# Altium footprint library PcbLib1.PcbLib: 2 footprints
Each footprint in its own frame and in the unit in brackets; x right, y up, seen from the top. Pads: shape width x height; smd on the part's side, far side on the other; paste and mask are expansions set on the pad; w line width, h text height; cw(c..) or ccw(c..) is an arc to the next point about the centre after c.
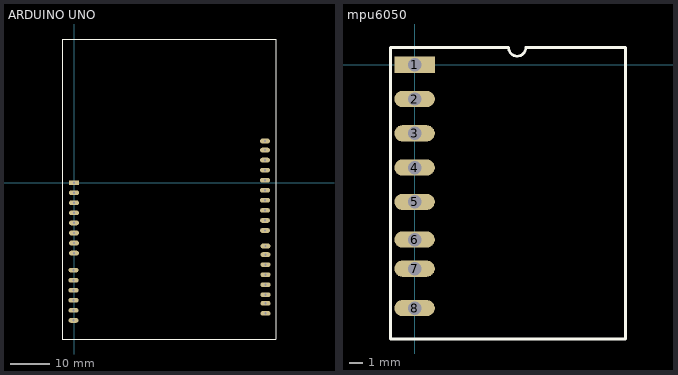
[diagram p0: the footprints below, top view; thin cyan lines are the x and y axes]

## ARDUINO UNO [mm]
pads (32):
  rect 2.5x1.2 hole 0.6: 1(0,0)
  oval 2.5x1.2 hole 0.6: 2(0,-2.54) 3(0,-5.08) 4(0,-7.62) 5(0,-10.16) 6(0,-12.7) 7(0,-15.24) 8(0,-17.78) 9(-0.127,-22.098) 10(-0.127,-24.638) 11(-0.127,-27.178) 12(-0.127,-29.718) 13(-0.127,-32.258) 14(-0.127,-34.798) 15(48.387,-33.02) 16(48.387,-30.48) 17(48.387,-28.321) 18(48.387,-25.781) 19(48.387,-23.241) 20(48.387,-20.701) 21(48.387,-18.161) 22(48.387,-16.002) 23(48.26,-12.065) 24(48.26,-9.525) 25(48.26,-6.985) 26(48.26,-4.445) 27(48.26,-1.905) 28(48.26,0.635) 29(48.26,3.175) 30(48.26,5.715) 31(48.26,8.255) 32(48.26,10.541)
Top Overlay:
  lines w0.2: 8.235,36.322 50.927,36.322 50.927,-39.497 -2.921,-39.497 -2.921,36.322 8.255,36.322
3D body "UNO_PCB.step": height 2.49, standoff -13.7, extent -2.921,-39.129 50.674,36.081

## mpu6050 [mm]
pads (8):
  rect 3x1.2 hole 1: 1(0,0)
  oval 3x1.2 hole 1: 2(0,-2.54) 3(0,-5.08) 4(0,-7.62) 5(0,-10.16) 6(0,-12.954) 7(0,-15.113) 8(0,-18.034)
Top Overlay:
  lines w0.2: -1.778,-20.32 -1.778,1.27 6.965,1.27 ccw(c7.6,1.27) 8.235,1.27 15.621,1.27 15.621,-20.32 -1.778,-20.32
3D body "MPU-6050-on-female-header.step": height 14.61, standoff -2.95, extent -0.762,-19.698 15.113,1.41